# Altium schematic symbol library 150505M173300.SchLib: 1 symbol
Pins are listed as number, name and electrical type; pins without a type are passive.

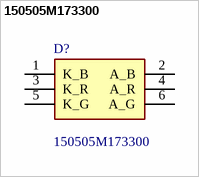
[diagram p0: symbol 150505M173300]

## 150505M173300
designator D?
2.4 V RGB LED 5050  SMD, Wurth Elektronik WL-SFTW 150505M173300; Geometry.Height: 1.7mm; Mouser Part Number: 710-150505M173300; Mouser Price/Stock: https://www.mouser.co.uk/ProductDetail/Wurth-Elektronik/150505M173300?qs=fAHHVMwC%252Bbi%2FURn4Qu0%2FAA%3D%3D; Manufacturer_Name: Wurth Elektronik; Manufacturer_Part_Number: 150505M173300; Datasheet Link: https://www.we-online.com/components/products/datasheet/150505M173300.pdf
footprint 150505M173300
pins: 1 K_B, 2 A_B, 3 K_R, 4 A_R, 5 K_G, 6 A_G